# Altium footprint library Module_lora.PcbLib: 1 footprints
Each footprint in its own frame and in the unit in brackets; x right, y up, seen from the top. Pads: shape width x height; smd on the part's side, far side on the other; paste and mask are expansions set on the pad; w line width, h text height; cw(c..) or ccw(c..) is an arc to the next point about the centre after c.
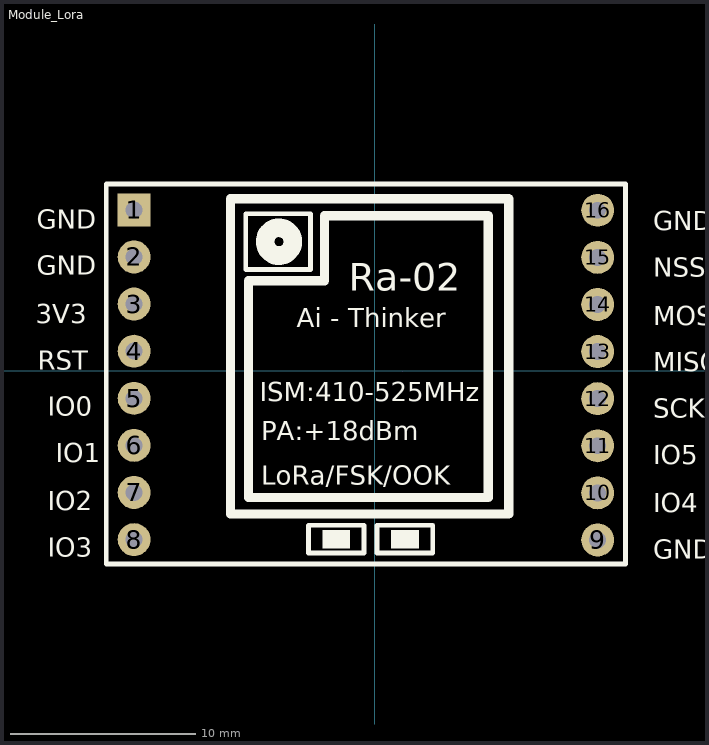
[diagram p0: the footprint, top view; thin cyan lines are the x and y axes]

## Module_Lora [mil]
pads (16):
  rect 70x70 hole 36 paste+0 mask+2: 1(-511.34,341.97)
  round 70 hole 36 paste+0 mask+2: 2(-511.34,241.97) 3(-511.34,141.97) 4(-511.34,41.97) 5(-511.34,-58.03) 6(-511.34,-158.03) 7(-511.34,-258.03) 8(-511.34,-358.03)
  round 70 hole 36 paste+0 mask+4: 9(472.91,-358.82) 10(472.91,-258.82) 11(472.91,-158.82) 12(472.91,-58.82) 13(472.91,41.18) 14(472.91,141.18) 15(472.91,241.18) 16(472.91,341.18)
Top Overlay:
  circle w39.37: c-203.69,274.43 r29.53
  rectangle: 33.93,-376.53 92.99,-337.16
  rectangle: -111.73,-376.53 -52.67,-337.16
  lines w10: -570.39,-410 -570.39,397.09 531.97,397.09 531.97,-410 -570.39,-410 ; -274.55,215.37 -274.55,333.48 -136.75,333.48 -136.75,215.37 -274.55,215.37 ; -141.26,-386.38 -141.26,-327.32 -23.15,-327.32 -23.15,-386.38 -141.26,-386.38 ; 4.41,-386.38 4.41,-327.32 122.52,-327.32 122.52,-386.38 4.41,-386.38
  lines w19.68: -306.61,-303.7 -306.61,365.59 283.94,365.59 283.94,-303.7 -306.61,-303.7 ; -268.64,-268.83 240.66,-268.83 240.66,329.57 -107.24,329.57 -107.24,191.77 -268.64,191.77 -268.64,-268.83
  text "GND" at 591.04,298.35 h40
  text "NSS" at 591.02,199.92 h40
  text "MOSI" at 591.02,97.56 h40
  text "MISO" at 591.02,-0.87 h40
  text "SCK" at 591.02,-99.29 h40
  text "IO5" at 591.02,-197.72 h40
  text "IO4" at 591.02,-300.08 h40
  text "GND" at 591.02,-398.5 h40
  text "IO3" at -694.6,-394.57 h40
  text "IO2" at -694.6,-296.15 h40
  text "IO1" at -678.2,-193.79 h40
  text "IO0" at -694.6,-95.36 h40
  text "RST" at -716.4,3.06 h40
  text "3V3" at -720,101.49 h40
  text "GND" at -718.23,203.85 h40
  text "GND" at -718.22,302.28 h40
  text "LoRa/FSK/OOK" at -241.08,-241.64 h40
  text "PA:+18dBm" at -241.08,-147.15 h40
  text "ISM:410-525MHz" at -245.02,-64.47 h40
  text "Ai - Thinker" at -166.28,93.01 h40
  text "Ra-02" at -56.05,170.09 h59.05
Mechanical 15:
  lines w0.1: 58,-1.47 58.02,-1.45